# EAGLE library part IC_FT311D (library dp_devices)
USB Android Host Mfr no: FT311D-32L1C FT311D <http://www.ftdichip.com/Support/Documents/DataSheets/ICs/DS_FT311D.pdf>
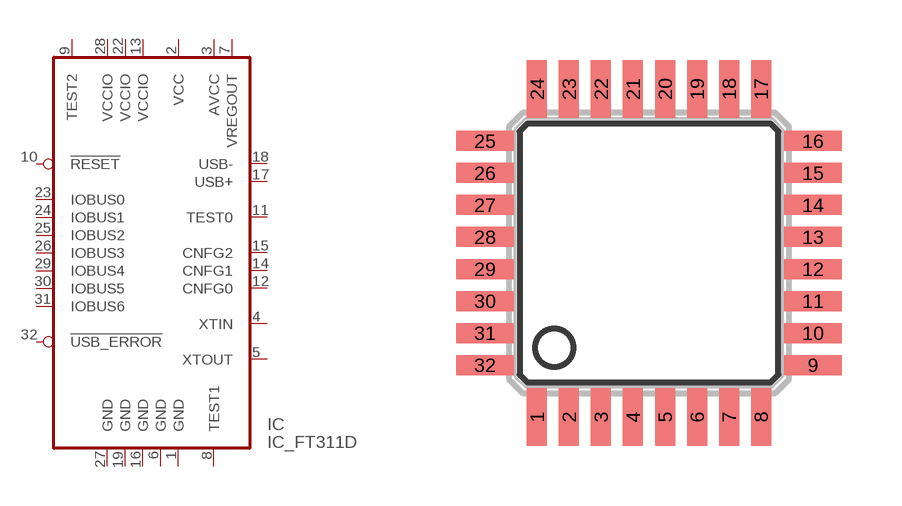
[diagram p111: symbol with the pads of LQFP-32; footprint LQFP-32]

Designator prefix IC

## IC_FT311D-LQFP-32  [LQFP-32]
1  GND  sup
2  VCC  sup
3  AVCC  pwr
4  XTIN  in
5  XTOUT  out
6  GND  sup
7  VREGOUT  pwr
8  TEST1  in
9  TEST2  in
10  !RESET  in
11  TEST0  out
12  CNFG0  in
13  VCCIO  sup
14  CNFG1  in
15  CNFG2  in
16  GND  sup
17  USB+  out
18  USB-  in
19  GND  sup
22  VCCIO  sup
23  IOBUS0
24  IOBUS1
25  IOBUS2
26  IOBUS3
27  GND  sup
28  VCCIO  sup
29  IOBUS4
30  IOBUS5
31  IOBUS6
32  !USB_ERROR  out

## Footprint LQFP-32 (pad centres in mm)
smd 0.5 x 1.45: 1 -2.8,-4.1; 2 -2,-4.1; 3 -1.2,-4.1; 4 -0.4,-4.1; 5 0.4,-4.1; 6 1.2,-4.1; 7 2,-4.1; 8 2.8,-4.1; 17 2.8,4.1; 18 2,4.1; 19 1.2,4.1; 20 0.4,4.1; 21 -0.4,4.1; 22 -1.2,4.1; 23 -2,4.1; 24 -2.8,4.1
smd 1.45 x 0.5: 9 4.1,-2.8; 10 4.1,-2; 11 4.1,-1.2; 12 4.1,-0.4; 13 4.1,0.4; 14 4.1,1.2; 15 4.1,2; 16 4.1,2.8; 25 -4.1,2.8; 26 -4.1,2; 27 -4.1,1.2; 28 -4.1,0.4; 29 -4.1,-0.4; 30 -4.1,-1.2; 31 -4.1,-2; 32 -4.1,-2.8